# EAGLE library part MC33931EK (library MC33931EK)
Motor / Motion / Ignition Controllers & Drivers 5A H-BRIDGE Source: Datasheet <http://www.nxp.com/docs/en/data-sheet/MC33931.pdf>
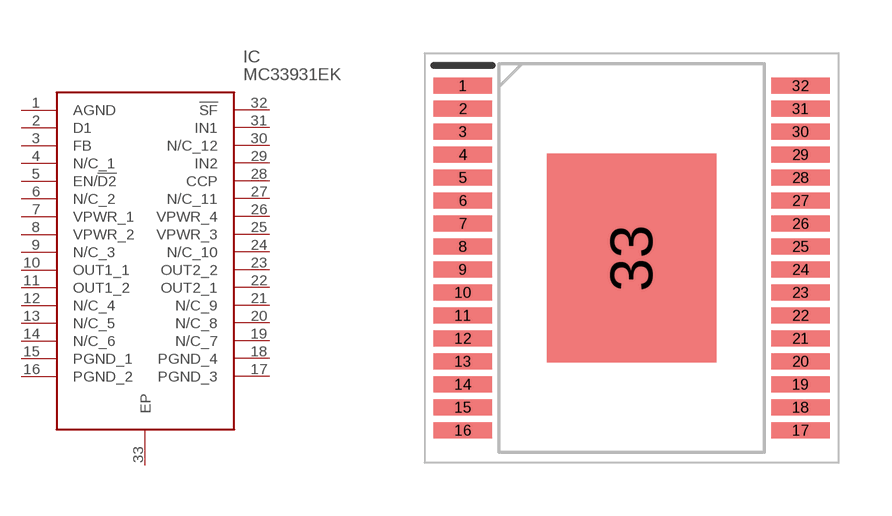
[diagram p0: symbol with the pads of SOP65P1030X245-33N; footprint SOP65P1030X245-33N]

Designator prefix IC

## MC33931EK (Arrow_Part_Number: MC33931EK; Description: Motor / Motion / Ignition Controllers & Drivers 5A H-BRIDGE; Height: 2.45mm; Manufacturer_Name: NXP; Manufacturer_Part_Number: MC33931EK; Mouser_Part_Number: 841-MC33931EK; Mouser_Price-Stock: https://www.mouser.co.uk/ProductDetail/NXP-Semiconductors/MC33931EK?qs=MTnpjZtrqA0k3nWpYino1Q%3D%3D)  [SOP65P1030X245-33N]
1  AGND
2  D1
3  FB
4  N/C_1
5  EN/!D2
6  N/C_2
7  VPWR_1
8  VPWR_2
9  N/C_3
10  OUT1_1
11  OUT1_2
12  N/C_4
13  N/C_5
14  N/C_6
15  PGND_1
16  PGND_2
17  PGND_3
18  PGND_4
19  N/C_7
20  N/C_8
21  N/C_9
22  OUT2_1
23  OUT2_2
24  N/C_10
25  VPWR_3
26  VPWR_4
27  N/C_11
28  CCP
29  IN2
30  N/C_12
31  IN1
32  !SF
33  EP

## Footprint SOP65P1030X245-33N (pad centres in mm)
32lead soic ep
smd 1.65 x 0.45: 1 -4.775,4.875; 2 -4.775,4.225; 3 -4.775,3.575; 4 -4.775,2.925; 5 -4.775,2.275; 6 -4.775,1.625; 7 -4.775,0.975; 8 -4.775,0.325; 9 -4.775,-0.325; 10 -4.775,-0.975; 11 -4.775,-1.625; 12 -4.775,-2.275; 13 -4.775,-2.925; 14 -4.775,-3.575; 15 -4.775,-4.225; 16 -4.775,-4.875; 17 4.775,-4.875; 18 4.775,-4.225; 19 4.775,-3.575; 20 4.775,-2.925; 21 4.775,-2.275; 22 4.775,-1.625; 23 4.775,-0.975; 24 4.775,-0.325; 25 4.775,0.325; 26 4.775,0.975; 27 4.775,1.625; 28 4.775,2.275; 29 4.775,2.925; 30 4.775,3.575; 31 4.775,4.225; 32 4.775,4.875
smd 4.8 x 5.9: 33 0,0